# EAGLE library part LOGIC,CLOCK-DRVR(MC100VEL14(1:5) (library QuantumOptics)
MC100LVEL14, 1:5 Clock Distribution, 3.3V but also MC100EL14 for 5V. Based on http://www.onsemi.com/pub/Collateral/MC100LVEL14-D.PDF
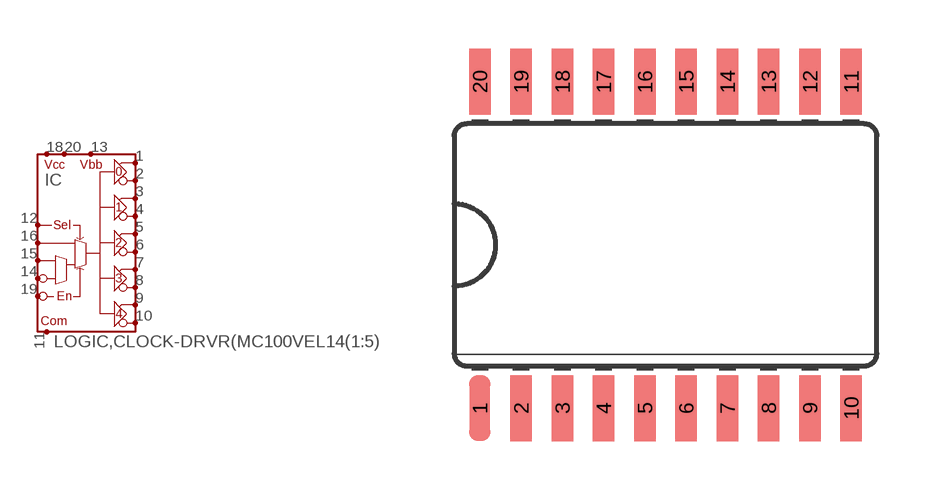
[diagram p98: symbol with the pads of SOIC-20W; footprint SOIC-20W]

Designator prefix IC

## LOGIC,CLOCK-DRVR(MC100VEL14(1:5)-SOIC20  [SOIC-20W]
1  Q0+  out
2  Q0-  out
3  Q1+  out
4  Q1-  out
5  Q2+  out
6  Q2-  out
7  Q3+  out
8  Q3-  out
9  Q4+  out
10  Q4-  out
11  VEE
12  SEL  in
13  VBB
14  CLK-  in
15  CLK+  in
16  SCLK  in
18  VCC1
19  ~EN  in
20  VCC2

## Footprint SOIC-20W (pad centres in mm)
SOIC-20, AKA Case 751D-05. This is the wide version, which is the more common. Based on http://www.onsemi.com/pub/Collateral/MC100LVEL14-D.PDF
smd 0.66 x 2.032: 1 -5.715,-5.029; 2 -4.445,-5.029; 3 -3.175,-5.029; 4 -1.905,-5.029; 5 -0.635,-5.029; 6 0.635,-5.029; 7 1.905,-5.029; 8 3.175,-5.029; 9 4.445,-5.029; 10 5.715,-5.029; 11 5.715,5.029; 12 4.445,5.029; 13 3.175,5.029; 14 1.905,5.029; 15 0.635,5.029; 16 -0.635,5.029; 17 -1.905,5.029; 18 -3.175,5.029; 19 -4.445,5.029; 20 -5.715,5.029